# Altium integrated library TI Data Converters Analog to Digital Converter.IntLib: 2198 symbols (part 19 of 164)
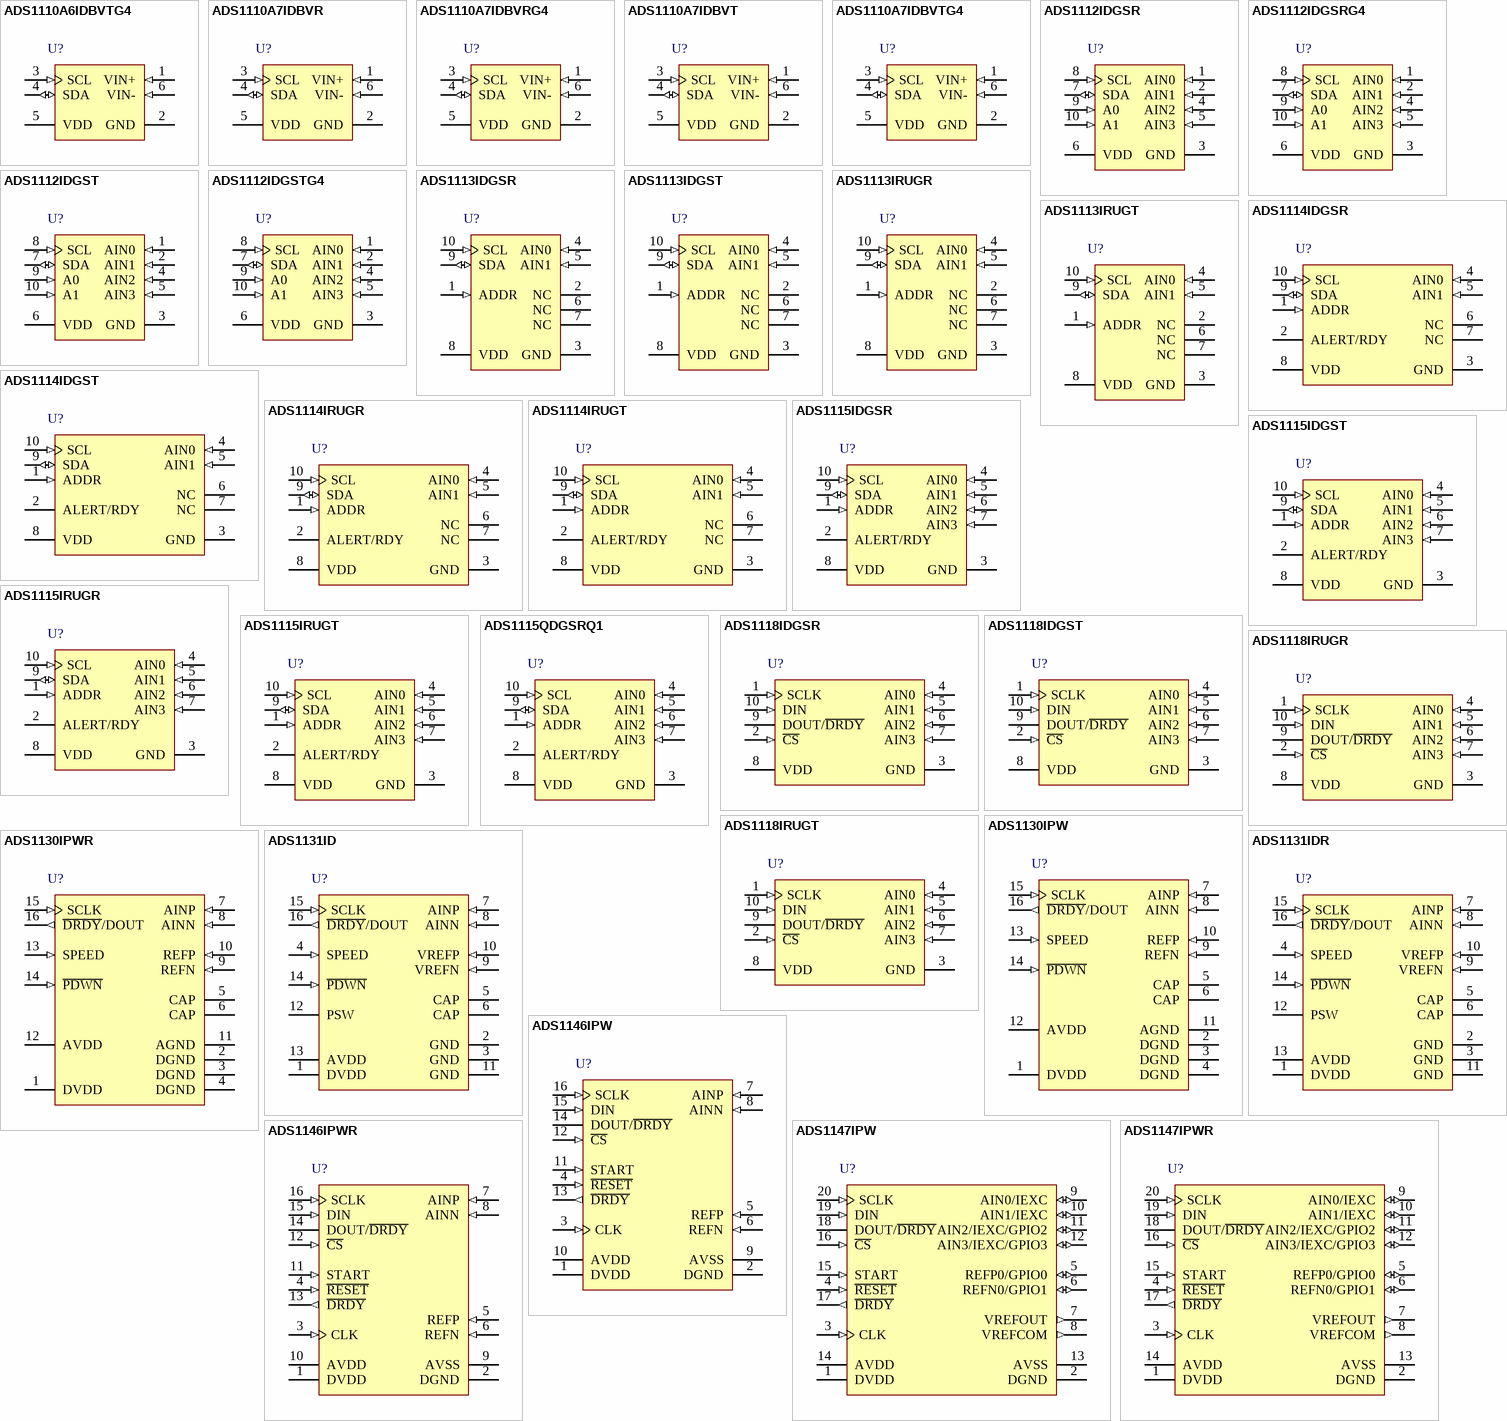
[diagram p144: symbols ADS1110A6IDBVTG4 to ADS1147IPWR]

## ADS1118IRUGT
designator U?
16-Bit ADC with Integrated Multiplexer, PGA, Temperature Sensor, Oscillator, and Reference, -40 to 125 degC, 10-pin X2QFN (RUG10), Green (RoHS & no Sb/Br); Manufacturer: Texas Instruments; PartNumber: ADS1118IRUGT; # Input Channels: 4; Analog Voltage AV/DD(Max)(V): 5.5; Analog Voltage AV/DD(Min)(V): 2; Architecture: Delta-Sigma; INL(Max)(+/-LSB): 1; Interface: Serial SPI; Resolution(Bits): 16; Sample Rate (max)(SPS): 860; SubFamily: Precision ADC (<=10MSPS); DatasheetVersion: SBAS457C; PackageVersion: 4208528-3/B, 04/2008; PackageReference: RUG10; PackageDescription: 10-Pin Plastic Quad Flatpack, Body 1.5 x 2 mm, Pitch 0.5 mm; Supplier 1: Digi-Key; Supplier Part Number 1: ADS8343EG4-ND; Digital Supply(Max)(V): 5.5; Digital Supply(Min)(V): 2; Eco-Plan: Green (RoHS & no Sb/Br); Mounting Technology: Surface Mount; Code_JEDEC: MO-288; ComponentLink1Description: Manufacturer URL; ComponentLink1URL: http://www.ti.com/; ComponentLink2Description: Datasheet; ComponentLink2URL: http://www.ti.com/general/docs/lit/getliterature.tsp?genericPartNumber=ADS1118&fileType=pdf; ComponentLink3Description: Package Specification; ComponentLink3URL: http://www.ti.com/litv/pdf/mpqf216a
footprint TI-RUG10_V (QFN, 10-Leads, Body 2x1.5mm)
pins: 1 SCLK (in) "Serial clock input", 2 ~{CS} (in) "Chip select; active low", 3 GND (power) "Ground", 4 AIN0 (in) "Differential channel 1: positive input or single-ended channel 1 input", 5 AIN1 (in) "Differential channel 1: negative input or single-ended channel 2 input", 6 AIN2 (in) "Differential channel 2: positive input or single-ended channel 3 input", 7 AIN3 (in) "Differential channel 2: negative input or single-ended channel 4 input", 8 VDD (power) "Power supply: 2.0 V to 5.5 V", 9 DOUT/~{DRDY} (hiz) "Serial data out combined with data ready; active low", 10 DIN (in) "Serial data input"

## ADS1130IPW
designator U?
18-Bit ADC for Bridge Sensor, -40 to 85 degC, 16-pin SOP (PW16), Green (RoHS & no Sb/Br); Manufacturer: Texas Instruments; PartNumber: ADS1130IPW; # Input Channels: 1; Analog Voltage AV/DD(Max)(V): 5.3; Analog Voltage AV/DD(Min)(V): 2.7; Architecture: Delta-Sigma; Interface: Serial SPI; Resolution(Bits): 18; Sample Rate (max)(SPS): 80; SubFamily: High Speed ADC (>10MSPS); DatasheetVersion: SBAS458A; PackageVersion: 4040064-4/G, 02/2011; PackageReference: PW16; PackageDescription: 16-Pin Plastic Small Outline, Body 5 x 4.4 mm, Pitch 0.65 mm; Supplier 1: Digi-Key; Supplier Part Number 1: ADS8341E-ND; Digital Supply(Max)(V): 5.3; Digital Supply(Min)(V): 2.7; Eco-Plan: Green (RoHS & no Sb/Br); Mounting Technology: Surface Mount; Code_JEDEC: MO-153; ComponentLink1Description: Manufacturer URL; ComponentLink1URL: http://www.ti.com/; ComponentLink2Description: Datasheet; ComponentLink2URL: http://www.ti.com/general/docs/lit/getliterature.tsp?genericPartNumber=ADS1130&fileType=pdf; ComponentLink3Description: Package Specification; ComponentLink3URL: http://www.ti.com/lit/ml/mpds361/mpds361.pdf
footprint TI-PW16_N (SOP, 16-Leads, Body 5x4.4mm, Pitch 0.65mm, IPC Medium Density)
footprint TI-PW16_L (SOP, 16-Leads, Body 5x4.4mm, Pitch 0.65mm, IPC High Density)
footprint TI-PW16_M (SOP, 16-Leads, Body 5x4.4mm, Pitch 0.65mm, IPC Low Density)
pins: 1 DVDD (power) "Digital power supply: 2.7V to 5.3V", 2 DGND (power) "Digital ground", 3 DGND (power) "Digital ground", 4 DGND (power) "Digital ground", 5 CAP "Gain amplifier bypass capacitor connection", 6 CAP "Gain amplifier bypass capacitor connection", 7 AINP (in) "Positive analog input", 8 AINN (in) "Negative analog input", 9 REFN (in) "Negative reference input", 10 REFP (in) "Positive reference input", 11 AGND (power) "Analog ground", 12 AVDD (power) "Analog power supply, 2.7V to 5.3V", 13 SPEED (in) "Data rate select:", 14 ~{PDWN} (in) "Power-down: Holding this pin low powers down the entire converter and resets the ADC.", 15 SCLK (in) "Serial clock: Clock out data on the rising edge. Also used to initiate Sleep mode. See the Standby Mode section for more details.", 16 ~{DRDY}/DOUT (out) "Dual-purpose output:Data ready: Indicates valid data by going low.Data output: Outputs data, MSB first, on the first rising edge of SCLK."

## ADS1130IPWR
designator U?
18-Bit ADC for Bridge Sensor, -40 to 85 degC, 16-pin SOP (PW16), Green (RoHS & no Sb/Br); Manufacturer: Texas Instruments; PartNumber: ADS1130IPWR; # Input Channels: 1; Analog Voltage AV/DD(Max)(V): 5.3; Analog Voltage AV/DD(Min)(V): 2.7; Architecture: Delta-Sigma; Interface: Serial SPI; Resolution(Bits): 18; Sample Rate (max)(SPS): 80; SubFamily: High Speed ADC (>10MSPS); DatasheetVersion: SBAS458A; PackageVersion: 4040064-4/G, 02/2011; PackageReference: PW16; PackageDescription: 16-Pin Plastic Small Outline, Body 5 x 4.4 mm, Pitch 0.65 mm; Supplier 1: Digi-Key; Supplier Part Number 1: ADS8341E/2K5-ND; Digital Supply(Max)(V): 5.3; Digital Supply(Min)(V): 2.7; Eco-Plan: Green (RoHS & no Sb/Br); Mounting Technology: Surface Mount; Code_JEDEC: MO-153; ComponentLink1Description: Manufacturer URL; ComponentLink1URL: http://www.ti.com/; ComponentLink2Description: Datasheet; ComponentLink2URL: http://www.ti.com/general/docs/lit/getliterature.tsp?genericPartNumber=ADS1130&fileType=pdf; ComponentLink3Description: Package Specification; ComponentLink3URL: http://www.ti.com/lit/ml/mpds361/mpds361.pdf
footprint TI-PW16_N (SOP, 16-Leads, Body 5x4.4mm, Pitch 0.65mm, IPC Medium Density)
footprint TI-PW16_L (SOP, 16-Leads, Body 5x4.4mm, Pitch 0.65mm, IPC High Density)
footprint TI-PW16_M (SOP, 16-Leads, Body 5x4.4mm, Pitch 0.65mm, IPC Low Density)
pins: 1 DVDD (power) "Digital power supply: 2.7V to 5.3V", 2 DGND (power) "Digital ground", 3 DGND (power) "Digital ground", 4 DGND (power) "Digital ground", 5 CAP "Gain amplifier bypass capacitor connection", 6 CAP "Gain amplifier bypass capacitor connection", 7 AINP (in) "Positive analog input", 8 AINN (in) "Negative analog input", 9 REFN (in) "Negative reference input", 10 REFP (in) "Positive reference input", 11 AGND (power) "Analog ground", 12 AVDD (power) "Analog power supply, 2.7V to 5.3V", 13 SPEED (in) "Data rate select:", 14 ~{PDWN} (in) "Power-down: Holding this pin low powers down the entire converter and resets the ADC.", 15 SCLK (in) "Serial clock: Clock out data on the rising edge. Also used to initiate Sleep mode. See the Standby Mode section for more details.", 16 ~{DRDY}/DOUT (out) "Dual-purpose output:Data ready: Indicates valid data by going low.Data output: Outputs data, MSB first, on the first rising edge of SCLK."

## ADS1131ID
designator U?
18-Bit ADC for Bridge Sensor, -40 to 85 degC, 16-pin SOIC (D16), Green (RoHS & no Sb/Br); Manufacturer: Texas Instruments; PartNumber: ADS1131ID; # Input Channels: 1; Analog Voltage AV/DD(Max)(V): 5.3; Analog Voltage AV/DD(Min)(V): 2.7; Architecture: Delta-Sigma; Interface: Serial; Resolution(Bits): 18; Sample Rate (max)(SPS): 80; SubFamily: High Speed ADC (>10MSPS); DatasheetVersion: SBAS449B; PackageVersion: 4040047-6/M, 06/2011; PackageReference: D16; PackageDescription: 16-Pin Plastic Small Outline, Body 9.9 x 3.9 mm, Pitch 1.27 mm; Supplier 1: Digi-Key; Supplier Part Number 1: ADS8341E/2K5G4-ND; Digital Supply(Max)(V): 5.3; Digital Supply(Min)(V): 2.7; Eco-Plan: Green (RoHS & no Sb/Br); Mounting Technology: Surface Mount; Code_JEDEC: MS-012; ComponentLink1Description: Manufacturer URL; ComponentLink1URL: http://www.ti.com/; ComponentLink2Description: Datasheet; ComponentLink2URL: http://www.ti.com/general/docs/lit/getliterature.tsp?genericPartNumber=ADS1131&fileType=pdf; ComponentLink3Description: Package Specification; ComponentLink3URL: http://www.ti.com/litv/pdf/mpds178g
footprint TI-D16_N (SOIC, 16-Leads, Body 9.9x3.9mm, Pitch 1.27mm, IPC Medium Density)
footprint TI-D16_L (SOIC, 16-Leads, Body 9.9x3.9mm, Pitch 1.27mm, IPC High Density)
footprint TI-D16_M (SOIC, 16-Leads, Body 9.9x3.9mm, Pitch 1.27mm, IPC Low Density)
pins: 1 DVDD (power) "Digital power supply", 2 GND (power) "Ground for digital and analog supplies", 3 GND (power) "Ground for digital and analog supplies", 4 SPEED (in) "Data rate select:", 5 CAP "Gain amplifier bypass capacitor connection", 6 CAP "Gain amplifier bypass capacitor connection", 7 AINP (in) "Positive analog input", 8 AINN (in) "Negative analog input", 9 VREFN (in) "Negative reference input", 10 VREFP (in) "Positive reference input", 11 GND (power) "Ground for digital and analog supplies", 12 PSW (power) "Low-side power switch", 13 AVDD (power) "Analog power supply", 14 ~{PDWN} (in) "Power-down: holding this pin low powers down the entire converter and resets the ADC.", 15 SCLK (in) "Serial clock: clock out data on the rising edge. Also used to initiate Standby mode. See the Standby Mode section for more details.", 16 ~{DRDY}/DOUT (out) "Dual-purpose output:Data ready: indicates valid data by going low.Data output: outputs data, MSB first, on the first rising edge of SCLK."

## ADS1131IDR
designator U?
18-Bit ADC for Bridge Sensor, -40 to 85 degC, 16-pin SOIC (D16), Green (RoHS & no Sb/Br); Manufacturer: Texas Instruments; PartNumber: ADS1131IDR; # Input Channels: 1; Analog Voltage AV/DD(Max)(V): 5.3; Analog Voltage AV/DD(Min)(V): 2.7; Architecture: Delta-Sigma; Interface: Serial; Resolution(Bits): 18; Sample Rate (max)(SPS): 80; SubFamily: High Speed ADC (>10MSPS); DatasheetVersion: SBAS449B; PackageVersion: 4040047-6/M, 06/2011; PackageReference: D16; PackageDescription: 16-Pin Plastic Small Outline, Body 9.9 x 3.9 mm, Pitch 1.27 mm; Supplier 1: Digi-Key; Supplier Part Number 1: ADS8341EB-ND; Digital Supply(Max)(V): 5.3; Digital Supply(Min)(V): 2.7; Eco-Plan: Green (RoHS & no Sb/Br); Mounting Technology: Surface Mount; Code_JEDEC: MS-012; ComponentLink1Description: Manufacturer URL; ComponentLink1URL: http://www.ti.com/; ComponentLink2Description: Datasheet; ComponentLink2URL: http://www.ti.com/general/docs/lit/getliterature.tsp?genericPartNumber=ADS1131&fileType=pdf; ComponentLink3Description: Package Specification; ComponentLink3URL: http://www.ti.com/litv/pdf/mpds178g
footprint TI-D16_N (SOIC, 16-Leads, Body 9.9x3.9mm, Pitch 1.27mm, IPC Medium Density)
footprint TI-D16_L (SOIC, 16-Leads, Body 9.9x3.9mm, Pitch 1.27mm, IPC High Density)
footprint TI-D16_M (SOIC, 16-Leads, Body 9.9x3.9mm, Pitch 1.27mm, IPC Low Density)
pins: 1 DVDD (power) "Digital power supply", 2 GND (power) "Ground for digital and analog supplies", 3 GND (power) "Ground for digital and analog supplies", 4 SPEED (in) "Data rate select:", 5 CAP "Gain amplifier bypass capacitor connection", 6 CAP "Gain amplifier bypass capacitor connection", 7 AINP (in) "Positive analog input", 8 AINN (in) "Negative analog input", 9 VREFN (in) "Negative reference input", 10 VREFP (in) "Positive reference input", 11 GND (power) "Ground for digital and analog supplies", 12 PSW (power) "Low-side power switch", 13 AVDD (power) "Analog power supply", 14 ~{PDWN} (in) "Power-down: holding this pin low powers down the entire converter and resets the ADC.", 15 SCLK (in) "Serial clock: clock out data on the rising edge. Also used to initiate Standby mode. See the Standby Mode section for more details.", 16 ~{DRDY}/DOUT (out) "Dual-purpose output:Data ready: indicates valid data by going low.Data output: outputs data, MSB first, on the first rising edge of SCLK."

## ADS1146IPW
designator U?
16-Bit ADC for Temperature Sensor, -40 to 105 degC, 16-pin SOP (PW16), Green (RoHS & no Sb/Br); Manufacturer: Texas Instruments; PartNumber: ADS1146IPW; # Input Channels: 1; Analog Voltage AV/DD(Max)(V): 5.25; Analog Voltage AV/DD(Min)(V): 2.7; Architecture: Delta-Sigma; Interface: Serial SPI; Resolution(Bits): 16; Sample Rate (max)(SPS): 2k; SubFamily: Precision ADC (<=10MSPS); DatasheetVersion: SBAS453F; PackageVersion: 4040064-4/G, 02/2011; PackageReference: PW16; PackageDescription: 16-Pin Plastic Small Outline, Body 5 x 4.4 mm, Pitch 0.65 mm; Supplier 1: Digi-Key; Supplier Part Number 1: ADS8341EB/2K5-ND; Digital Supply(Max)(V): 5.25; Digital Supply(Min)(V): 2.7; Eco-Plan: Green (RoHS & no Sb/Br); INL(Max)(+/-LSB): 1; Mounting Technology: Surface Mount; Code_JEDEC: MO-153; ComponentLink1Description: Manufacturer URL; ComponentLink1URL: http://www.ti.com/; ComponentLink2Description: Datasheet; ComponentLink2URL: http://www.ti.com/general/docs/lit/getliterature.tsp?genericPartNumber=ADS1146&fileType=pdf; ComponentLink3Description: Package Specification; ComponentLink3URL: http://www.ti.com/lit/ml/mpds361/mpds361.pdf
footprint TI-PW16_N (SOP, 16-Leads, Body 5x4.4mm, Pitch 0.65mm, IPC Medium Density)
footprint TI-PW16_L (SOP, 16-Leads, Body 5x4.4mm, Pitch 0.65mm, IPC High Density)
footprint TI-PW16_M (SOP, 16-Leads, Body 5x4.4mm, Pitch 0.65mm, IPC Low Density)
pins: 1 DVDD (power) "Digital power supply", 2 DGND (power) "Digital ground", 3 CLK (in) "External clock input. Tie this pin to DGND to activate the internal oscillator.", 4 ~{RESET} (in) "Chip reset (active low). Returns all register values to reset values.", 5 REFP (in) "Positive external reference input", 6 REFN (in) "Negative external reference input", 7 AINP (in) "Positive analog input", 8 AINN (in) "Negative analog input", 9 AVSS (power) "Negative analog power supply", 10 AVDD (power) "Positive analog power supply", 11 START (in) "Conversion start. See text for description of use.", 12 ~{CS} (in) "Chip select (active low)", 13 ~{DRDY} (out) "Data ready (active low)", 14 DOUT/~{DRDY} (hiz) "Serial data out output, or data out combined with data ready (active low when D\R\D\Y\ function enabled)", 15 DIN (in) "Serial data input", 16 SCLK (in) "Serial clock input"

## ADS1146IPWR
designator U?
16-Bit ADC for Temperature Sensor, -40 to 105 degC, 16-pin SOP (PW16), Green (RoHS & no Sb/Br); Manufacturer: Texas Instruments; PartNumber: ADS1146IPWR; # Input Channels: 1; Analog Voltage AV/DD(Max)(V): 5.25; Analog Voltage AV/DD(Min)(V): 2.7; Architecture: Delta-Sigma; Interface: Serial SPI; Resolution(Bits): 16; Sample Rate (max)(SPS): 2k; SubFamily: Precision ADC (<=10MSPS); DatasheetVersion: SBAS453F; PackageVersion: 4040064-4/G, 02/2011; PackageReference: PW16; PackageDescription: 16-Pin Plastic Small Outline, Body 5 x 4.4 mm, Pitch 0.65 mm; Supplier 1: Digi-Key; Supplier Part Number 1: ADS8341EB/2K5G4-ND; Digital Supply(Max)(V): 5.25; Digital Supply(Min)(V): 2.7; Eco-Plan: Green (RoHS & no Sb/Br); INL(Max)(+/-LSB): 1; Mounting Technology: Surface Mount; Code_JEDEC: MO-153; ComponentLink1Description: Manufacturer URL; ComponentLink1URL: http://www.ti.com/; ComponentLink2Description: Datasheet; ComponentLink2URL: http://www.ti.com/general/docs/lit/getliterature.tsp?genericPartNumber=ADS1146&fileType=pdf; ComponentLink3Description: Package Specification; ComponentLink3URL: http://www.ti.com/lit/ml/mpds361/mpds361.pdf
footprint TI-PW16_N (SOP, 16-Leads, Body 5x4.4mm, Pitch 0.65mm, IPC Medium Density)
footprint TI-PW16_L (SOP, 16-Leads, Body 5x4.4mm, Pitch 0.65mm, IPC High Density)
footprint TI-PW16_M (SOP, 16-Leads, Body 5x4.4mm, Pitch 0.65mm, IPC Low Density)
pins: 1 DVDD (power) "Digital power supply", 2 DGND (power) "Digital ground", 3 CLK (in) "External clock input. Tie this pin to DGND to activate the internal oscillator.", 4 ~{RESET} (in) "Chip reset (active low). Returns all register values to reset values.", 5 REFP (in) "Positive external reference input", 6 REFN (in) "Negative external reference input", 7 AINP (in) "Positive analog input", 8 AINN (in) "Negative analog input", 9 AVSS (power) "Negative analog power supply", 10 AVDD (power) "Positive analog power supply", 11 START (in) "Conversion start. See text for description of use.", 12 ~{CS} (in) "Chip select (active low)", 13 ~{DRDY} (out) "Data ready (active low)", 14 DOUT/~{DRDY} (hiz) "Serial data out output, or data out combined with data ready (active low when D\R\D\Y\ function enabled)", 15 DIN (in) "Serial data input", 16 SCLK (in) "Serial clock input"

## ADS1147IPW
designator U?
16-Bit ADC for Temperature Sensor, -40 to 105 degC, 20-pin SOP (PW20), Green (RoHS & no Sb/Br); Manufacturer: Texas Instruments; PartNumber: ADS1147IPW; # Input Channels: 3; Analog Voltage AV/DD(Max)(V): 5.25; Analog Voltage AV/DD(Min)(V): 2.7; Architecture: Delta-Sigma; INL(Max)(+/-LSB): 1; Interface: Serial SPI; Resolution(Bits): 16; Sample Rate (max)(SPS): 2k; SubFamily: Precision ADC (<=10MSPS); DatasheetVersion: SBAS453F; PackageVersion: 4040064-5/G, 02/2011; PackageReference: PW20; PackageDescription: 20-Pin Plastic Small Outline, Body 6.5 x 4.4 mm, Pitch 0.65 mm; Supplier 1: Digi-Key; Supplier Part Number 1: ADS8341EBG4-ND; Digital Supply(Max)(V): 5.25; Digital Supply(Min)(V): 2.7; Eco-Plan: Green (RoHS & no Sb/Br); Mounting Technology: Surface Mount; Code_JEDEC: MO-153; ComponentLink1Description: Manufacturer URL; ComponentLink1URL: http://www.ti.com/; ComponentLink2Description: Datasheet; ComponentLink2URL: http://www.ti.com/general/docs/lit/getliterature.tsp?genericPartNumber=ADS1147&fileType=pdf; ComponentLink3Description: Package Specification; ComponentLink3URL: http://www.ti.com.cn/cn/lit/ml/mpds362/mpds362.pdf
footprint TI-PW20_N (SOP, 20-Leads, Body 6.5x4.4mm, Pitch 0.65mm, IPC Medium Density)
footprint TI-PW20_L (SOP, 20-Leads, Body 6.5x4.4mm, Pitch 0.65mm, IPC High Density)
footprint TI-PW20_M (SOP, 20-Leads, Body 6.5x4.4mm, Pitch 0.65mm, IPC Low Density)
pins: 1 DVDD (power) "Digital power supply", 2 DGND (power) "Digital ground", 3 CLK (in) "External clock input. Tie this pin to DGND to activate the internal oscillator.", 4 ~{RESET} (in) "Chip reset (active low). Returns all register values to reset values.", 5 REFP0/GPIO0 (io), 6 REFN0/GPIO1 (io), 7 VREFOUT (out) "Positive internal reference voltage output", 8 VREFCOM (out) "Negative internal reference voltage output. Connect this pin to AVSS when using a unipolar supply, or to the midvoltage of the power supply when using a bipolar supply.", 9 AIN0/IEXC (io), 10 AIN1/IEXC (io), 11 AIN2/IEXC/GPIO2 (io), 12 AIN3/IEXC/GPIO3 (io), 13 AVSS (power) "Negative analog power supply", 14 AVDD (power) "Positive analog power supply", 15 START (in) "Conversion start. See text for description of use.", 16 ~{CS} (in) "Chip select (active low)", 17 ~{DRDY} (out) "Data ready (active low)", 18 DOUT/~{DRDY} (hiz), 19 DIN (in) "Serial data input", 20 SCLK (in) "Serial clock input"

## ADS1147IPWR
designator U?
16-Bit ADC for Temperature Sensor, -40 to 105 degC, 20-pin SOP (PW20), Green (RoHS & no Sb/Br); Manufacturer: Texas Instruments; PartNumber: ADS1147IPWR; # Input Channels: 3; Analog Voltage AV/DD(Max)(V): 5.25; Analog Voltage AV/DD(Min)(V): 2.7; Architecture: Delta-Sigma; INL(Max)(+/-LSB): 1; Interface: Serial SPI; Resolution(Bits): 16; Sample Rate (max)(SPS): 2k; SubFamily: Precision ADC (<=10MSPS); DatasheetVersion: SBAS453F; PackageVersion: 4040064-5/G, 02/2011; PackageReference: PW20; PackageDescription: 20-Pin Plastic Small Outline, Body 6.5 x 4.4 mm, Pitch 0.65 mm; Supplier 1: Digi-Key; Supplier Part Number 1: ADS8341EG4-ND; Digital Supply(Max)(V): 5.25; Digital Supply(Min)(V): 2.7; Eco-Plan: Green (RoHS & no Sb/Br); Mounting Technology: Surface Mount; Code_JEDEC: MO-153; ComponentLink1Description: Manufacturer URL; ComponentLink1URL: http://www.ti.com/; ComponentLink2Description: Datasheet; ComponentLink2URL: http://www.ti.com/general/docs/lit/getliterature.tsp?genericPartNumber=ADS1147&fileType=pdf; ComponentLink3Description: Package Specification; ComponentLink3URL: http://www.ti.com.cn/cn/lit/ml/mpds362/mpds362.pdf
footprint TI-PW20_N (SOP, 20-Leads, Body 6.5x4.4mm, Pitch 0.65mm, IPC Medium Density)
footprint TI-PW20_L (SOP, 20-Leads, Body 6.5x4.4mm, Pitch 0.65mm, IPC High Density)
footprint TI-PW20_M (SOP, 20-Leads, Body 6.5x4.4mm, Pitch 0.65mm, IPC Low Density)
pins: 1 DVDD (power) "Digital power supply", 2 DGND (power) "Digital ground", 3 CLK (in) "External clock input. Tie this pin to DGND to activate the internal oscillator.", 4 ~{RESET} (in) "Chip reset (active low). Returns all register values to reset values.", 5 REFP0/GPIO0 (io), 6 REFN0/GPIO1 (io), 7 VREFOUT (out) "Positive internal reference voltage output", 8 VREFCOM (out) "Negative internal reference voltage output. Connect this pin to AVSS when using a unipolar supply, or to the midvoltage of the power supply when using a bipolar supply.", 9 AIN0/IEXC (io), 10 AIN1/IEXC (io), 11 AIN2/IEXC/GPIO2 (io), 12 AIN3/IEXC/GPIO3 (io), 13 AVSS (power) "Negative analog power supply", 14 AVDD (power) "Positive analog power supply", 15 START (in) "Conversion start. See text for description of use.", 16 ~{CS} (in) "Chip select (active low)", 17 ~{DRDY} (out) "Data ready (active low)", 18 DOUT/~{DRDY} (hiz), 19 DIN (in) "Serial data input", 20 SCLK (in) "Serial clock input"

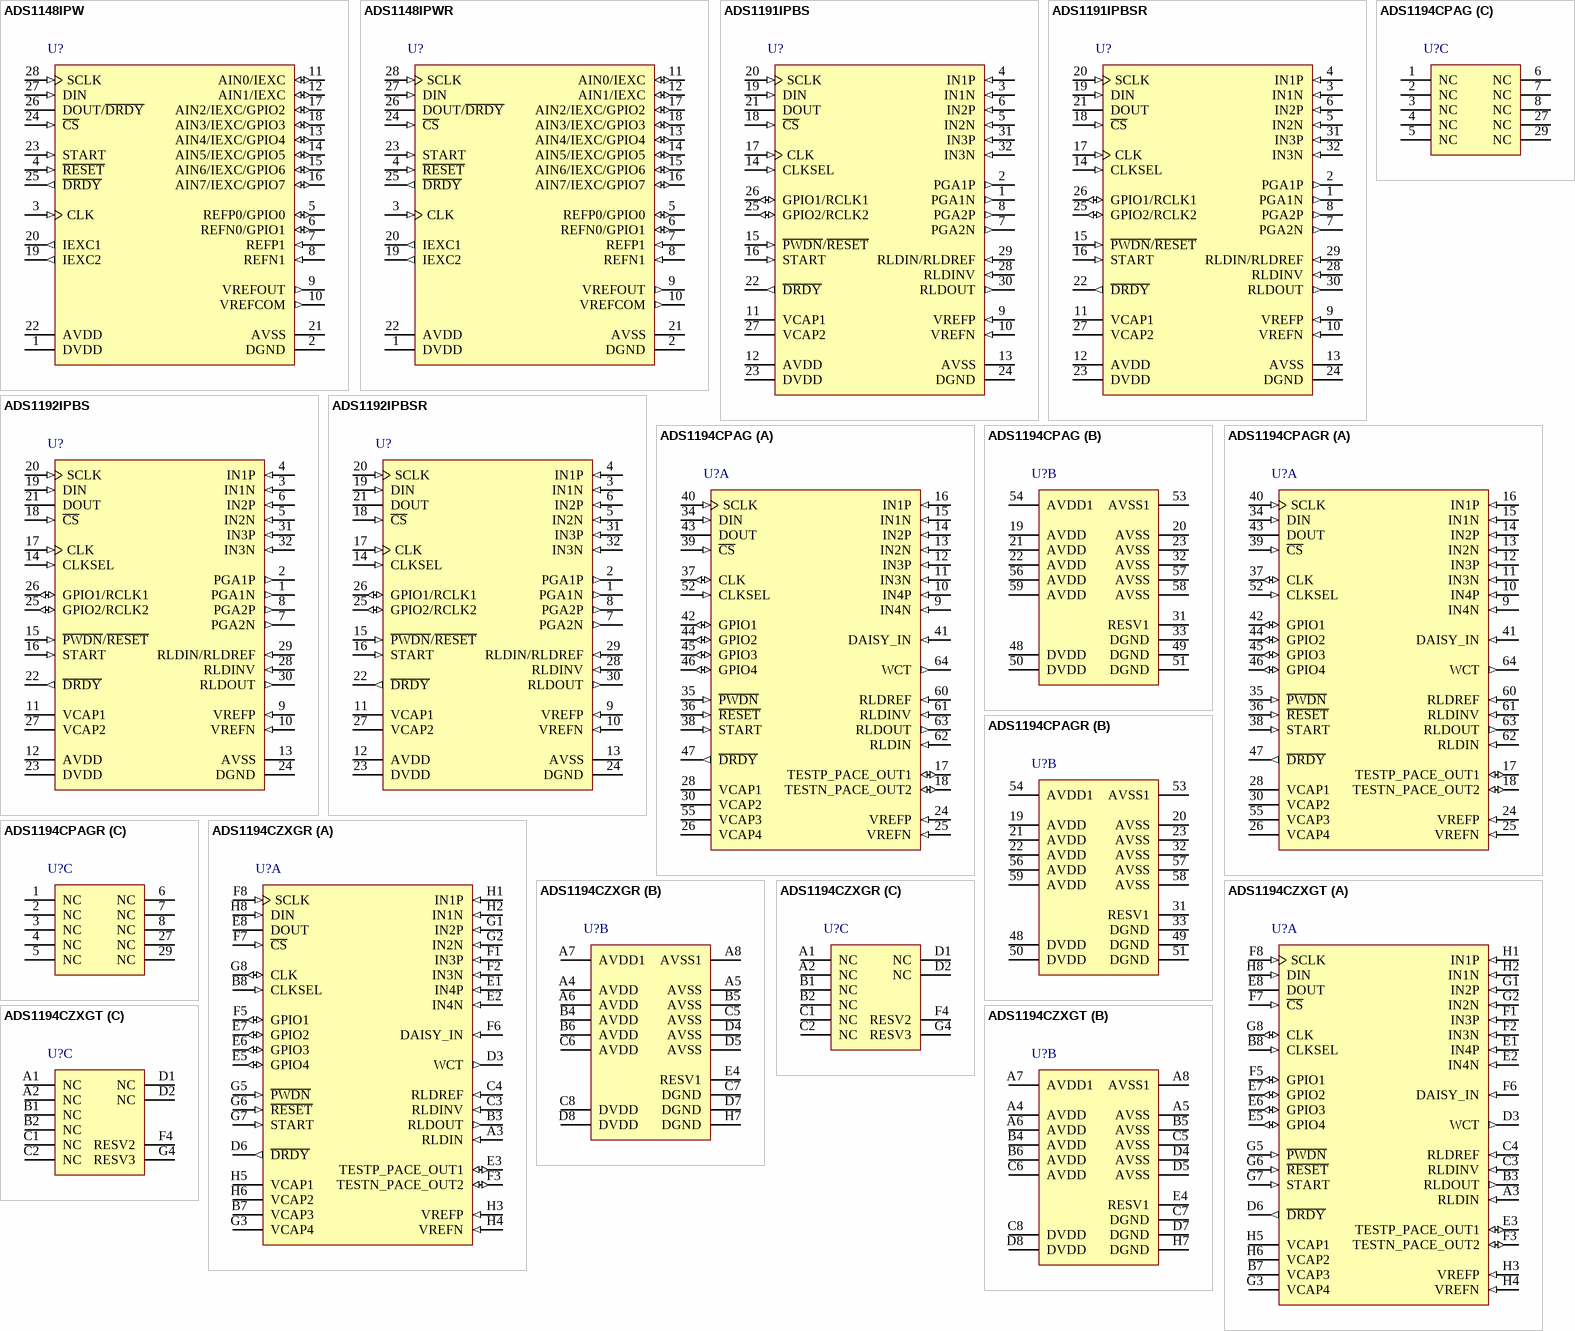
[diagram p14: symbols ADS1148IPW to ADS1194CZXGT]

## ADS1148IPW
designator U?
16-Bit ADC for Temperature Sensor, -40 to 105 degC, 28-pin SOP (PW28), Green (RoHS & no Sb/Br); Manufacturer: Texas Instruments; PartNumber: ADS1148IPW; # Input Channels: 7; Analog Voltage AV/DD(Max)(V): 5.25; Analog Voltage AV/DD(Min)(V): 2.7; Architecture: Delta-Sigma; INL(Max)(+/-LSB): 1; Interface: Serial SPI; Resolution(Bits): 16; Sample Rate (max)(SPS): 2k; SubFamily: Precision ADC (<=10MSPS); DatasheetVersion: SBAS453F; PackageVersion: 4040064-7/G, 02/2011; PackageReference: PW28; PackageDescription: 28-Pin Plastic Small Outline, Body 9.7 x 4.4 mm, Pitch 0.65 mm; Supplier 1: Digi-Key; Supplier Part Number 1: 296-17889-5-ND; Digital Supply(Max)(V): 5.25; Digital Supply(Min)(V): 2.7; Eco-Plan: Green (RoHS & no Sb/Br); Mounting Technology: Surface Mount; Code_JEDEC: MO-153; ComponentLink1Description: Manufacturer URL; ComponentLink1URL: http://www.ti.com/; ComponentLink2Description: Datasheet; ComponentLink2URL: http://www.ti.com/general/docs/lit/getliterature.tsp?genericPartNumber=ADS1148&fileType=pdf; ComponentLink3Description: Package Specification; ComponentLink3URL: http://www.ti.com/litv/pdf/mpds364
footprint TI-PW28_N (SOP, 28-Leads, Body 9.7x4.4mm, Pitch 0.65mm, IPC Medium Density)
footprint TI-PW28_L (SOP, 28-Leads, Body 9.7x4.4mm, Pitch 0.65mm, IPC High Density)
footprint TI-PW28_M (SOP, 28-Leads, Body 9.7x4.4mm, Pitch 0.65mm, IPC Low Density)
pins: 1 DVDD (power) "Digital power supply", 2 DGND (power) "Digital ground", 3 CLK (in) "External clock input. Tie this pin to DGND to activate the internal oscillator.", 4 ~{RESET} (in) "Chip reset (active low). Returns all register values to reset values.", 5 REFP0/GPIO0 (io) "Positive external reference input 0, or general-purpose digital input/output pin 0", 6 REFN0/GPIO1 (io) "Negative external reference 0 input, or general-purpose digital input/output pin 1", 7 REFP1 (in) "Positive external reference 1 input", 8 REFN1 (in) "Negative external reference 1 input", 9 VREFOUT (out) "Positive internal reference voltage output", 10 VREFCOM (out) "Negative internal reference voltage output. Connect this pin to AVSS when using a unipolar supply, or to the midvoltage of the power supply when using a bipolar supply.", 11 AIN0/IEXC (io) "Analog input 0, optional excitation current output", 12 AIN1/IEXC (io) "Analog input 1, optional excitation current output", 13 AIN4/IEXC/GPIO4 (io) "Analog input 4, optional excitation current output, or general-purpose digital input/output pin 4", 14 AIN5/IEXC/GPIO5 (io) "Analog input 5, optional excitation current output, or general-purpose digital input/output pin 5", 15 AIN6/IEXC/GPIO6 (io) "Analog input 6, optional excitation current output, or general-purpose digital input/output pin 6", 16 AIN7/IEXC/GPIO7 (io) "Analog input 7, optional excitation current output, or general-purpose digital input/output pin 7", 17 AIN2/IEXC/GPIO2 (io) "Analog input 2, optional excitation current output, or general-purpose digital input/output pin 2", 18 AIN3/IEXC/GPIO3 (io) "Analog input 3, optional excitation current output, or general-purpose digital input/output pin 3", 19 IEXC2 (out) "Excitation current output 2", 20 IEXC1 (out) "Excitation current output 1", 21 AVSS (power) "Negative analog power supply", 22 AVDD (power) "Positive analog power supply", 23 START (in) "Conversion start. See text for complete description.", 24 ~{CS} (in) "Chip select (active low)", 25 ~{DRDY} (out) "Data ready (active low)", 26 DOUT/~{DRDY} (hiz) "Serial data out output, or data out combined with data ready (active low when DRDY function enabled)", 27 DIN (in) "Serial data input", 28 SCLK (in) "Serial clock input"

## ADS1148IPWR
designator U?
16-Bit ADC for Temperature Sensor, -40 to 105 degC, 28-pin SOP (PW28), Green (RoHS & no Sb/Br); Manufacturer: Texas Instruments; PartNumber: ADS1148IPWR; # Input Channels: 7; Analog Voltage AV/DD(Max)(V): 5.25; Analog Voltage AV/DD(Min)(V): 2.7; Architecture: Delta-Sigma; INL(Max)(+/-LSB): 1; Interface: Serial SPI; Resolution(Bits): 16; Sample Rate (max)(SPS): 2k; SubFamily: Precision ADC (<=10MSPS); DatasheetVersion: SBAS453F; PackageVersion: 4040064-7/G, 02/2011; PackageReference: PW28; PackageDescription: 28-Pin Plastic Small Outline, Body 9.7 x 4.4 mm, Pitch 0.65 mm; Supplier 1: Digi-Key; Supplier Part Number 1: ADS1208IPWG4-ND; Digital Supply(Max)(V): 5.25; Digital Supply(Min)(V): 2.7; Eco-Plan: Green (RoHS & no Sb/Br); Mounting Technology: Surface Mount; Code_JEDEC: MO-153; ComponentLink1Description: Manufacturer URL; ComponentLink1URL: http://www.ti.com/; ComponentLink2Description: Datasheet; ComponentLink2URL: http://www.ti.com/general/docs/lit/getliterature.tsp?genericPartNumber=ADS1148&fileType=pdf; ComponentLink3Description: Package Specification; ComponentLink3URL: http://www.ti.com/litv/pdf/mpds364
footprint TI-PW28_N (SOP, 28-Leads, Body 9.7x4.4mm, Pitch 0.65mm, IPC Medium Density)
footprint TI-PW28_L (SOP, 28-Leads, Body 9.7x4.4mm, Pitch 0.65mm, IPC High Density)
footprint TI-PW28_M (SOP, 28-Leads, Body 9.7x4.4mm, Pitch 0.65mm, IPC Low Density)
pins: 1 DVDD (power) "Digital power supply", 2 DGND (power) "Digital ground", 3 CLK (in) "External clock input. Tie this pin to DGND to activate the internal oscillator.", 4 ~{RESET} (in) "Chip reset (active low). Returns all register values to reset values.", 5 REFP0/GPIO0 (io) "Positive external reference input 0, or general-purpose digital input/output pin 0", 6 REFN0/GPIO1 (io) "Negative external reference 0 input, or general-purpose digital input/output pin 1", 7 REFP1 (in) "Positive external reference 1 input", 8 REFN1 (in) "Negative external reference 1 input", 9 VREFOUT (out) "Positive internal reference voltage output", 10 VREFCOM (out) "Negative internal reference voltage output. Connect this pin to AVSS when using a unipolar supply, or to the midvoltage of the power supply when using a bipolar supply.", 11 AIN0/IEXC (io) "Analog input 0, optional excitation current output", 12 AIN1/IEXC (io) "Analog input 1, optional excitation current output", 13 AIN4/IEXC/GPIO4 (io) "Analog input 4, optional excitation current output, or general-purpose digital input/output pin 4", 14 AIN5/IEXC/GPIO5 (io) "Analog input 5, optional excitation current output, or general-purpose digital input/output pin 5", 15 AIN6/IEXC/GPIO6 (io) "Analog input 6, optional excitation current output, or general-purpose digital input/output pin 6", 16 AIN7/IEXC/GPIO7 (io) "Analog input 7, optional excitation current output, or general-purpose digital input/output pin 7", 17 AIN2/IEXC/GPIO2 (io) "Analog input 2, optional excitation current output, or general-purpose digital input/output pin 2", 18 AIN3/IEXC/GPIO3 (io) "Analog input 3, optional excitation current output, or general-purpose digital input/output pin 3", 19 IEXC2 (out) "Excitation current output 2", 20 IEXC1 (out) "Excitation current output 1", 21 AVSS (power) "Negative analog power supply", 22 AVDD (power) "Positive analog power supply", 23 START (in) "Conversion start. See text for complete description.", 24 ~{CS} (in) "Chip select (active low)", 25 ~{DRDY} (out) "Data ready (active low)", 26 DOUT/~{DRDY} (hiz) "Serial data out output, or data out combined with data ready (active low when DRDY function enabled)", 27 DIN (in) "Serial data input", 28 SCLK (in) "Serial clock input"

## ADS1191IPBS
designator U?
Complete Low Power Integrated Analog Front End for ECG Application, -40 to 85 degC, 32-pin QFP (PBS32), Green (RoHS & no Sb/Br); Manufacturer: Texas Instruments; PartNumber: ADS1191IPBS; # Input Channels: 1; Analog Voltage AV/DD(Max)(V): 5.25; Analog Voltage AV/DD(Min)(V): 2.7; Architecture: Delta-Sigma; Digital Supply(Max)(V): 3.6; Digital Supply(Min)(V): 1.7; Interface: Serial SPI; Resolution(Bits): 16; Sample Rate (max)(SPS): 8k; SubFamily: Precision ADC (<=10MSPS); DatasheetVersion: SBAS566A; PackageVersion: 4087735/B, 07/2005; PackageReference: PBS32; PackageDescription: 32-Pin Plastic Flat Pack, Body 5 X 5 mm, Pitch 0.5 mm; Supplier 1: Digi-Key; Supplier Part Number 1: ADS1208IPWR-ND; Eco-Plan: Green (RoHS & no Sb/Br); Mounting Technology: Surface Mount; Code_JEDEC: MS-026; ComponentLink1Description: Manufacturer URL; ComponentLink1URL: http://www.ti.com/; ComponentLink2Description: Datasheet; ComponentLink2URL: http://www.ti.com/general/docs/lit/getliterature.tsp?genericPartNumber=ADS1191&fileType=pdf; ComponentLink3Description: Package Specification; ComponentLink3URL: http://www.ti.com/lit/ml/mpqf027a/mpqf027a.pdf
footprint TI-PBS32_N (QFP, 32-Leads, Body 5x5mm, Pitch 0.5mm, IPC Medium Density)
footprint TI-PBS32_L (QFP, 32-Leads, Body 5x5mm, Pitch 0.5mm, IPC High Density)
footprint TI-PBS32_M (QFP, 32-Leads, Body 5x5mm, Pitch 0.5mm, IPC Low Density)
pins: 1 PGA1N (out) "Differential analog negative output 1", 2 PGA1P (out) "Differential analog positive output 1", 3 IN1N (in) "Differential analog negative input 1", 4 IN1P (in) "Differential analog positive input 1", 5 IN2N (in) "Differential analog negative input 2", 6 IN2P (in) "Differential analog positive input 2", 7 PGA2N (out) "Differential analog negative output 2", 8 PGA2P (out) "Differential analog positive output 2", 9 VREFP (in) "Positive reference voltage", 10 VREFN (in) "Negative reference voltage", 11 VCAP1 "Analog bypass capacitor", 12 AVDD (power) "Analog supply", 13 AVSS (power) "Analog ground", 14 CLKSEL (in) "Master clock select", 15 ~{PWDN}/~{RESET} (in) "Power-down/System reset; active low", 16 START (in) "Start conversion", 17 CLK (in) "Master clock input", 18 ~{CS} (in) "Chip select", 19 DIN (in) "SPI data in", 20 SCLK (in) "SPI clock", 21 DOUT (hiz) "SPI data out", 22 ~{DRDY} (out) "Data ready; active low", 23 DVDD (power) "Digital power supply", 24 DGND (power) "Digital ground", 25 GPIO2/RCLK2 (io) "GPIO2", 26 GPIO1/RCLK1 (io) "GPIO1", 27 VCAP2 "Analog bypass capacitor", 28 RLDINV (in) "Right leg drive inverting input", 29 RLDIN/RLDREF (in) "Right leg drive input to MUX/RLD reference", 30 RLDOUT (out) "Right leg drive output", 31 IN3P (in) "Differential analog positive input 3", 32 IN3N (in) "Differential analog negative input 3"

## ADS1191IPBSR
designator U?
Complete Low Power Integrated Analog Front End for ECG Application, -40 to 85 degC, 32-pin QFP (PBS32), Green (RoHS & no Sb/Br); Manufacturer: Texas Instruments; PartNumber: ADS1191IPBSR; # Input Channels: 1; Analog Voltage AV/DD(Max)(V): 5.25; Analog Voltage AV/DD(Min)(V): 2.7; Architecture: Delta-Sigma; Digital Supply(Max)(V): 3.6; Digital Supply(Min)(V): 1.7; Interface: Serial SPI; Resolution(Bits): 16; Sample Rate (max)(SPS): 8k; SubFamily: Precision ADC (<=10MSPS); DatasheetVersion: SBAS566A; PackageVersion: 4087735/B, 07/2005; PackageReference: PBS32; PackageDescription: 32-Pin Plastic Flat Pack, Body 5 X 5 mm, Pitch 0.5 mm; Supplier 1: Digi-Key; Supplier Part Number 1: ADS1208IPWRG4-ND; Eco-Plan: Green (RoHS & no Sb/Br); Mounting Technology: Surface Mount; Code_JEDEC: MS-026; ComponentLink1Description: Manufacturer URL; ComponentLink1URL: http://www.ti.com/; ComponentLink2Description: Datasheet; ComponentLink2URL: http://www.ti.com/general/docs/lit/getliterature.tsp?genericPartNumber=ADS1191&fileType=pdf; ComponentLink3Description: Package Specification; ComponentLink3URL: http://www.ti.com/lit/ml/mpqf027a/mpqf027a.pdf
footprint TI-PBS32_N (QFP, 32-Leads, Body 5x5mm, Pitch 0.5mm, IPC Medium Density)
footprint TI-PBS32_L (QFP, 32-Leads, Body 5x5mm, Pitch 0.5mm, IPC High Density)
footprint TI-PBS32_M (QFP, 32-Leads, Body 5x5mm, Pitch 0.5mm, IPC Low Density)
pins: 1 PGA1N (out) "Differential analog negative output 1", 2 PGA1P (out) "Differential analog positive output 1", 3 IN1N (in) "Differential analog negative input 1", 4 IN1P (in) "Differential analog positive input 1", 5 IN2N (in) "Differential analog negative input 2", 6 IN2P (in) "Differential analog positive input 2", 7 PGA2N (out) "Differential analog negative output 2", 8 PGA2P (out) "Differential analog positive output 2", 9 VREFP (in) "Positive reference voltage", 10 VREFN (in) "Negative reference voltage", 11 VCAP1 "Analog bypass capacitor", 12 AVDD (power) "Analog supply", 13 AVSS (power) "Analog ground", 14 CLKSEL (in) "Master clock select", 15 ~{PWDN}/~{RESET} (in) "Power-down/System reset; active low", 16 START (in) "Start conversion", 17 CLK (in) "Master clock input", 18 ~{CS} (in) "Chip select", 19 DIN (in) "SPI data in", 20 SCLK (in) "SPI clock", 21 DOUT (hiz) "SPI data out", 22 ~{DRDY} (out) "Data ready; active low", 23 DVDD (power) "Digital power supply", 24 DGND (power) "Digital ground", 25 GPIO2/RCLK2 (io) "GPIO2", 26 GPIO1/RCLK1 (io) "GPIO1", 27 VCAP2 "Analog bypass capacitor", 28 RLDINV (in) "Right leg drive inverting input", 29 RLDIN/RLDREF (in) "Right leg drive input to MUX/RLD reference", 30 RLDOUT (out) "Right leg drive output", 31 IN3P (in) "Differential analog positive input 3", 32 IN3N (in) "Differential analog negative input 3"

## ADS1192IPBS
designator U?
Complete Low Power Integrated Analog Front End for ECG Application, -40 to 85 degC, 32-pin QFP (PBS32), Green (RoHS & no Sb/Br); Manufacturer: Texas Instruments; PartNumber: ADS1192IPBS; # Input Channels: 2; Analog Voltage AV/DD(Max)(V): 5.25; Analog Voltage AV/DD(Min)(V): 2.7; Architecture: Delta-Sigma; Digital Supply(Max)(V): 3.6; Digital Supply(Min)(V): 1.7; Interface: Serial SPI; Resolution(Bits): 16; Sample Rate (max)(SPS): 8k; SNR(dB): 92; SubFamily: Precision ADC (<=10MSPS); DatasheetVersion: SBAS566A; PackageVersion: 4087735/B, 07/2005; PackageReference: PBS32; PackageDescription: 32-Pin Plastic Flat Pack, Body 5 X 5 mm, Pitch 0.5 mm; Supplier 1: Digi-Key; Supplier Part Number 1: 296-21722-5-ND; Eco-Plan: Green (RoHS & no Sb/Br); Mounting Technology: Surface Mount; Code_JEDEC: MS-026; ComponentLink1Description: Manufacturer URL; ComponentLink1URL: http://www.ti.com/; ComponentLink2Description: Datasheet; ComponentLink2URL: http://www.ti.com/general/docs/lit/getliterature.tsp?genericPartNumber=ADS1192&fileType=pdf; ComponentLink3Description: Package Specification; ComponentLink3URL: http://www.ti.com/lit/ml/mpqf027a/mpqf027a.pdf
footprint TI-PBS32_N (QFP, 32-Leads, Body 5x5mm, Pitch 0.5mm, IPC Medium Density)
footprint TI-PBS32_L (QFP, 32-Leads, Body 5x5mm, Pitch 0.5mm, IPC High Density)
footprint TI-PBS32_M (QFP, 32-Leads, Body 5x5mm, Pitch 0.5mm, IPC Low Density)
pins: 1 PGA1N (out) "Differential analog negative output 1", 2 PGA1P (out) "Differential analog positive output 1", 3 IN1N (in) "Differential analog negative input 1", 4 IN1P (in) "Differential analog positive input 1", 5 IN2N (in) "Differential analog negative input 2", 6 IN2P (in) "Differential analog positive input 2", 7 PGA2N (out) "Differential analog negative output 2", 8 PGA2P (out) "Differential analog positive output 2", 9 VREFP (in) "Positive reference voltage", 10 VREFN (in) "Negative reference voltage", 11 VCAP1 "Analog bypass capacitor", 12 AVDD (power) "Analog supply", 13 AVSS (power) "Analog ground", 14 CLKSEL (in) "Master clock select", 15 ~{PWDN}/~{RESET} (in) "Power-down/System reset; active low", 16 START (in) "Start conversion", 17 CLK (in) "Master clock input", 18 ~{CS} (in) "Chip select", 19 DIN (in) "SPI data in", 20 SCLK (in) "SPI clock", 21 DOUT (hiz) "SPI data out", 22 ~{DRDY} (out) "Data ready; active low", 23 DVDD (power) "Digital power supply", 24 DGND (power) "Digital ground", 25 GPIO2/RCLK2 (io) "GPIO2", 26 GPIO1/RCLK1 (io) "GPIO1", 27 VCAP2 "Analog bypass capacitor", 28 RLDINV (in) "Right leg drive inverting input", 29 RLDIN/RLDREF (in) "Right leg drive input to MUX/RLD reference", 30 RLDOUT (out) "Right leg drive output", 31 IN3P (in) "Differential analog positive input 3", 32 IN3N (in) "Differential analog negative input 3"

## ADS1192IPBSR
designator U?
Complete Low Power Integrated Analog Front End for ECG Application, -40 to 85 degC, 32-pin QFP (PBS32), Green (RoHS & no Sb/Br); Manufacturer: Texas Instruments; PartNumber: ADS1192IPBSR; # Input Channels: 2; Analog Voltage AV/DD(Max)(V): 5.25; Analog Voltage AV/DD(Min)(V): 2.7; Architecture: Delta-Sigma; Digital Supply(Max)(V): 3.6; Digital Supply(Min)(V): 1.7; Interface: Serial SPI; Resolution(Bits): 16; Sample Rate (max)(SPS): 8k; SNR(dB): 92; SubFamily: Precision ADC (<=10MSPS); DatasheetVersion: SBAS566A; PackageVersion: 4087735/B, 07/2005; PackageReference: PBS32; PackageDescription: 32-Pin Plastic Flat Pack, Body 5 X 5 mm, Pitch 0.5 mm; Supplier 1: Digi-Key; Supplier Part Number 1: ADS1271IBPWG4-ND; Eco-Plan: Green (RoHS & no Sb/Br); Mounting Technology: Surface Mount; Code_JEDEC: MS-026; ComponentLink1Description: Manufacturer URL; ComponentLink1URL: http://www.ti.com/; ComponentLink2Description: Datasheet; ComponentLink2URL: http://www.ti.com/general/docs/lit/getliterature.tsp?genericPartNumber=ADS1192&fileType=pdf; ComponentLink3Description: Package Specification; ComponentLink3URL: http://www.ti.com/lit/ml/mpqf027a/mpqf027a.pdf
footprint TI-PBS32_N (QFP, 32-Leads, Body 5x5mm, Pitch 0.5mm, IPC Medium Density)
footprint TI-PBS32_L (QFP, 32-Leads, Body 5x5mm, Pitch 0.5mm, IPC High Density)
footprint TI-PBS32_M (QFP, 32-Leads, Body 5x5mm, Pitch 0.5mm, IPC Low Density)
pins: 1 PGA1N (out) "Differential analog negative output 1", 2 PGA1P (out) "Differential analog positive output 1", 3 IN1N (in) "Differential analog negative input 1", 4 IN1P (in) "Differential analog positive input 1", 5 IN2N (in) "Differential analog negative input 2", 6 IN2P (in) "Differential analog positive input 2", 7 PGA2N (out) "Differential analog negative output 2", 8 PGA2P (out) "Differential analog positive output 2", 9 VREFP (in) "Positive reference voltage", 10 VREFN (in) "Negative reference voltage", 11 VCAP1 "Analog bypass capacitor", 12 AVDD (power) "Analog supply", 13 AVSS (power) "Analog ground", 14 CLKSEL (in) "Master clock select", 15 ~{PWDN}/~{RESET} (in) "Power-down/System reset; active low", 16 START (in) "Start conversion", 17 CLK (in) "Master clock input", 18 ~{CS} (in) "Chip select", 19 DIN (in) "SPI data in", 20 SCLK (in) "SPI clock", 21 DOUT (hiz) "SPI data out", 22 ~{DRDY} (out) "Data ready; active low", 23 DVDD (power) "Digital power supply", 24 DGND (power) "Digital ground", 25 GPIO2/RCLK2 (io) "GPIO2", 26 GPIO1/RCLK1 (io) "GPIO1", 27 VCAP2 "Analog bypass capacitor", 28 RLDINV (in) "Right leg drive inverting input", 29 RLDIN/RLDREF (in) "Right leg drive input to MUX/RLD reference", 30 RLDOUT (out) "Right leg drive output", 31 IN3P (in) "Differential analog positive input 3", 32 IN3N (in) "Differential analog negative input 3"

## ADS1194CPAG
designator U?
Low-Power, 4-Channel, 16-Bit Analog Front-End for ECG, 0 to 70 degC, 64-pin QFP (PAG64), Green (RoHS & no Sb/Br); Manufacturer: Texas Instruments; PartNumber: ADS1194CPAG; # Input Channels: 4; Analog Voltage AV/DD(Max)(V): 5.25; Analog Voltage AV/DD(Min)(V): 2.7; Architecture: Delta-Sigma; Digital Supply(Max)(V): 3.6; Digital Supply(Min)(V): 1.65; Interface: Serial SPI; Resolution(Bits): 16; Sample Rate (max)(SPS): 8k; SNR(dB): 97; SubFamily: Precision ADC (<=10MSPS); DatasheetVersion: SBAS471C; PackageVersion: 4040282/C, 11/1996; PackageReference: PAG64; PackageDescription: 64-Pin Plastic Flat Pack, Body 10 x 10 mm, Pitch 0.50 mm; Supplier 1: Digi-Key; Supplier Part Number 1: ADS1271IBPWR-ND; Eco-Plan: Green (RoHS & no Sb/Br); Mounting Technology: Surface Mount; Code_JEDEC: MS-026; ComponentLink1Description: Manufacturer URL; ComponentLink1URL: http://www.ti.com/; ComponentLink2Description: Datasheet; ComponentLink2URL: http://www.ti.com/general/docs/lit/getliterature.tsp?genericPartNumber=ADS1194&fileType=pdf; ComponentLink3Description: Package Specification; ComponentLink3URL: http://www.ti.com/lit/ml/mtqf006a/mtqf006a.pdf
footprint TI-PAG64_N (QFP, 64-Leads, Body 10x10mm, Pitch 0.5mm, IPC Medium Density)
footprint TI-PAG64_L (QFP, 64-Leads, Body 10x10mm, Pitch 0.5mm, IPC High Density)
footprint TI-PAG64_M (QFP, 64-Leads, Body 10x10mm, Pitch 0.5mm, IPC Low Density)
part A pins: 9 IN4N (in) "Differential analog negative input 4", 10 IN4P (in) "Differential analog positive input 4", 11 IN3N (in) "Differential analog negative input 3", 12 IN3P (in) "Differential analog positive input 3", 13 IN2N (in) "Differential analog negative input 2", 14 IN2P (in) "Differential analog positive input 2", 15 IN1N (in) "Differential analog negative input 1", 16 IN1P (in) "Differential analog positive input 1", 17 TESTP_PACE_OUT1 (io) "Internal test signal/single-ended buffer output based on register settings", 18 TESTN_PACE_OUT2 (io) "Internal test signal/single-ended buffer output based on register settings", 24 VREFP (in) "Positive reference voltage", 25 VREFN (in) "Negative reference voltage", 26 VCAP4 "Analog bypass capacitor", 28 VCAP1 "Analog bypass capacitor", 30 VCAP2 "Analog bypass capacitor", 34 DIN (in) "SPI data in", 35 ~{PWDN} (in) "Power-down; active low", 36 ~{RESET} (in) "System reset; active low", 37 CLK (io) "External Master clock input or internal clock output.", 38 START (in) "Start conversion", 39 ~{CS} (in) "SPI chip select; active low", 40 SCLK (in) "SPI clock", 41 DAISY_IN (in) "Daisy-chain input; if not used, short to DGND.", 42 GPIO1 (io) "General-purpose input/output pin", 43 DOUT (hiz) "SPI data out", 44 GPIO2 (io) "General-purpose input/output pin", 45 GPIO3 (io) "General-purpose input/output pin", 46 GPIO4 (io) "General-purpose input/output pin", 47 ~{DRDY} (out) "Data ready; active low", 52 CLKSEL (in) "Master clock select", 55 VCAP3 "Analog bypass capacitor; internally generated AVDD + 1.9V.", 60 RLDREF (in) "Right leg drive noninverting input", 61 RLDINV (in) "Right leg drive inverting input", 62 RLDIN (in) "Right leg drive input to MUX", 63 RLDOUT (out) "Right leg drive output", 64 WCT (out) "Wilson Central Terminal output"
part B pins: 19 AVDD (power) "Analog supply", 20 AVSS (power) "Analog ground", 21 AVDD (power) "Analog supply", 22 AVDD (power) "Analog supply", 23 AVSS (power) "Analog ground", 31 RESV1 (power) "Reserved for future use; must tie to logic low (DGND).", 32 AVSS (power) "Analog ground", 33 DGND (power) "Digital ground", 48 DVDD (power) "Digital power supply", 49 DGND (power) "Digital ground", 50 DVDD (power) "Digital power supply", 51 DGND (power) "Digital ground", 53 AVSS1 (power) "Analog ground", 54 AVDD1 (power) "Analog supply", 56 AVDD (power) "Analog supply", 57 AVSS (power) "Analog ground", 58 AVSS (power) "Analog ground", 59 AVDD (power) "Analog supply"
part C pins: 1 NC "Connect unused terminals to AVDD.", 2 NC "Connect unused terminals to AVDD.", 3 NC "Connect unused terminals to AVDD.", 4 NC "Connect unused terminals to AVDD.", 5 NC "Connect unused terminals to AVDD.", 6 NC "Connect unused terminals to AVDD.", 7 NC "Connect unused terminals to AVDD.", 8 NC "Connect unused terminals to AVDD.", 27 NC "No connection", 29 NC "No connection"

## ADS1194CPAGR
designator U?
Low-Power, 4-Channel, 16-Bit Analog Front-End for ECG, 0 to 70 degC, 64-pin QFP (PAG64), Green (RoHS & no Sb/Br); Manufacturer: Texas Instruments; PartNumber: ADS1194CPAGR; # Input Channels: 4; Analog Voltage AV/DD(Max)(V): 5.25; Analog Voltage AV/DD(Min)(V): 2.7; Architecture: Delta-Sigma; Digital Supply(Max)(V): 3.6; Digital Supply(Min)(V): 1.65; Interface: Serial SPI; Resolution(Bits): 16; Sample Rate (max)(SPS): 8k; SNR(dB): 97; SubFamily: Precision ADC (<=10MSPS); DatasheetVersion: SBAS471C; PackageVersion: 4040282/C, 11/1996; PackageReference: PAG64; PackageDescription: 64-Pin Plastic Flat Pack, Body 10 x 10 mm, Pitch 0.50 mm; Supplier 1: Digi-Key; Supplier Part Number 1: ADS1271IBPWRG4-ND; Eco-Plan: Green (RoHS & no Sb/Br); Mounting Technology: Surface Mount; Code_JEDEC: MS-026; ComponentLink1Description: Manufacturer URL; ComponentLink1URL: http://www.ti.com/; ComponentLink2Description: Datasheet; ComponentLink2URL: http://www.ti.com/general/docs/lit/getliterature.tsp?genericPartNumber=ADS1194&fileType=pdf; ComponentLink3Description: Package Specification; ComponentLink3URL: http://www.ti.com/lit/ml/mtqf006a/mtqf006a.pdf
footprint TI-PAG64_N (QFP, 64-Leads, Body 10x10mm, Pitch 0.5mm, IPC Medium Density)
footprint TI-PAG64_L (QFP, 64-Leads, Body 10x10mm, Pitch 0.5mm, IPC High Density)
footprint TI-PAG64_M (QFP, 64-Leads, Body 10x10mm, Pitch 0.5mm, IPC Low Density)
part A pins: 9 IN4N (in) "Differential analog negative input 4", 10 IN4P (in) "Differential analog positive input 4", 11 IN3N (in) "Differential analog negative input 3", 12 IN3P (in) "Differential analog positive input 3", 13 IN2N (in) "Differential analog negative input 2", 14 IN2P (in) "Differential analog positive input 2", 15 IN1N (in) "Differential analog negative input 1", 16 IN1P (in) "Differential analog positive input 1", 17 TESTP_PACE_OUT1 (io) "Internal test signal/single-ended buffer output based on register settings", 18 TESTN_PACE_OUT2 (io) "Internal test signal/single-ended buffer output based on register settings", 24 VREFP (in) "Positive reference voltage", 25 VREFN (in) "Negative reference voltage", 26 VCAP4 "Analog bypass capacitor", 28 VCAP1 "Analog bypass capacitor", 30 VCAP2 "Analog bypass capacitor", 34 DIN (in) "SPI data in", 35 ~{PWDN} (in) "Power-down; active low", 36 ~{RESET} (in) "System reset; active low", 37 CLK (io) "External Master clock input or internal clock output.", 38 START (in) "Start conversion", 39 ~{CS} (in) "SPI chip select; active low", 40 SCLK (in) "SPI clock", 41 DAISY_IN (in) "Daisy-chain input; if not used, short to DGND.", 42 GPIO1 (io) "General-purpose input/output pin", 43 DOUT (hiz) "SPI data out", 44 GPIO2 (io) "General-purpose input/output pin", 45 GPIO3 (io) "General-purpose input/output pin", 46 GPIO4 (io) "General-purpose input/output pin", 47 ~{DRDY} (out) "Data ready; active low", 52 CLKSEL (in) "Master clock select", 55 VCAP3 "Analog bypass capacitor; internally generated AVDD + 1.9V.", 60 RLDREF (in) "Right leg drive noninverting input", 61 RLDINV (in) "Right leg drive inverting input", 62 RLDIN (in) "Right leg drive input to MUX", 63 RLDOUT (out) "Right leg drive output", 64 WCT (out) "Wilson Central Terminal output"
part B pins: 19 AVDD (power) "Analog supply", 20 AVSS (power) "Analog ground", 21 AVDD (power) "Analog supply", 22 AVDD (power) "Analog supply", 23 AVSS (power) "Analog ground", 31 RESV1 (power) "Reserved for future use; must tie to logic low (DGND).", 32 AVSS (power) "Analog ground", 33 DGND (power) "Digital ground", 48 DVDD (power) "Digital power supply", 49 DGND (power) "Digital ground", 50 DVDD (power) "Digital power supply", 51 DGND (power) "Digital ground", 53 AVSS1 (power) "Analog ground", 54 AVDD1 (power) "Analog supply", 56 AVDD (power) "Analog supply", 57 AVSS (power) "Analog ground", 58 AVSS (power) "Analog ground", 59 AVDD (power) "Analog supply"
part C pins: 1 NC "Connect unused terminals to AVDD.", 2 NC "Connect unused terminals to AVDD.", 3 NC "Connect unused terminals to AVDD.", 4 NC "Connect unused terminals to AVDD.", 5 NC "Connect unused terminals to AVDD.", 6 NC "Connect unused terminals to AVDD.", 7 NC "Connect unused terminals to AVDD.", 8 NC "Connect unused terminals to AVDD.", 27 NC "No connection", 29 NC "No connection"